# Altium schematic symbol library LMK1D2102LRGTR.SchLib: 1 symbol
Pins are listed as number, name and electrical type; pins without a type are passive.

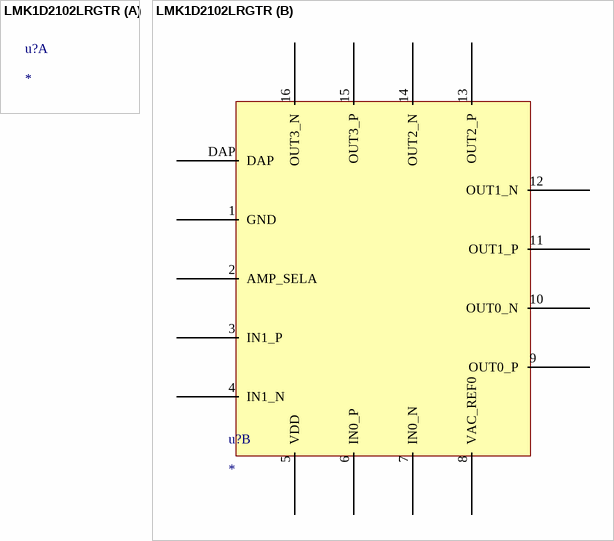
[diagram p0: symbol LMK1D2102LRGTR]

## LMK1D2102LRGTR
designator u?
footprint LMK1D2102RGTR (Clock Buffer 1:2 LVDS OUTPUT Texas Instruments / VQFN NO LEAD)
footprint LMK1D2102RGT (Clock Buffer 1:2 LVDS OUTPUT Texas Instruments / VQFN NO LEAD)
footprint LMK1D2102RGTR (Clock Buffer 1:2 LVDS OUTPUT Texas Instruments / VQFN NO LEAD)
part B pins: 1 GND, 2 AMP_SELA, 3 IN1_P, 4 IN1_N, 5 VDD, 6 IN0_P, 7 IN0_N, 8 VAC_REF0, 9 OUT0_P, 10 OUT0_N, 11 OUT1_P, 12 OUT1_N, 13 OUT2_P, 14 OUT2_N, 15 OUT3_P, 16 OUT3_N, DAP